# EAGLE library part MIC49200-1.0WR (library sjg-power)
2A @ 1v regulator
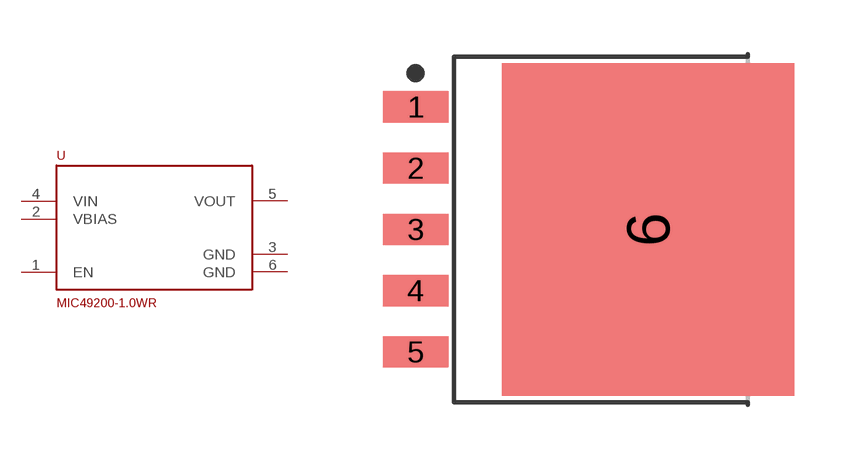
[diagram p2: symbol with the pads of TO170P1055X205-6; footprint TO170P1055X205-6]

Designator prefix -

## MIC49200-1.0WRSPAK-5  [TO170P1055X205-6]
1  EN
2  VBIAS
3  GND
4  VIN
5  VOUT
6  GND

## Footprint TO170P1055X205-6 (pad centres in mm)
6-TO, DPAK, 1.70 mm pitch, 10.55 mm span, 9.43 X 8.00 X 2.05 mm body 6-pin TO, DPAK package with 1.70 mm pitch, 10.55 mm span with body size 9.43 X 8.00 X 2.05 mm
smd 1.823 x 0.867: 1 -4.799,3.4; 2 -4.799,1.7; 3 -4.799,0; 4 -4.799,-1.7; 5 -4.799,-3.4
smd 8.113 x 9.23: 6 1.654,0